# Altium footprint library ThroHole.PcbLib: 56 footprints (part 1 of 4)
Each footprint in its own frame and in the unit in brackets; x right, y up, seen from the top. Pads: shape width x height; smd on the part's side, far side on the other; paste and mask are expansions set on the pad; w line width, h text height; cw(c..) or ccw(c..) is an arc to the next point about the centre after c.
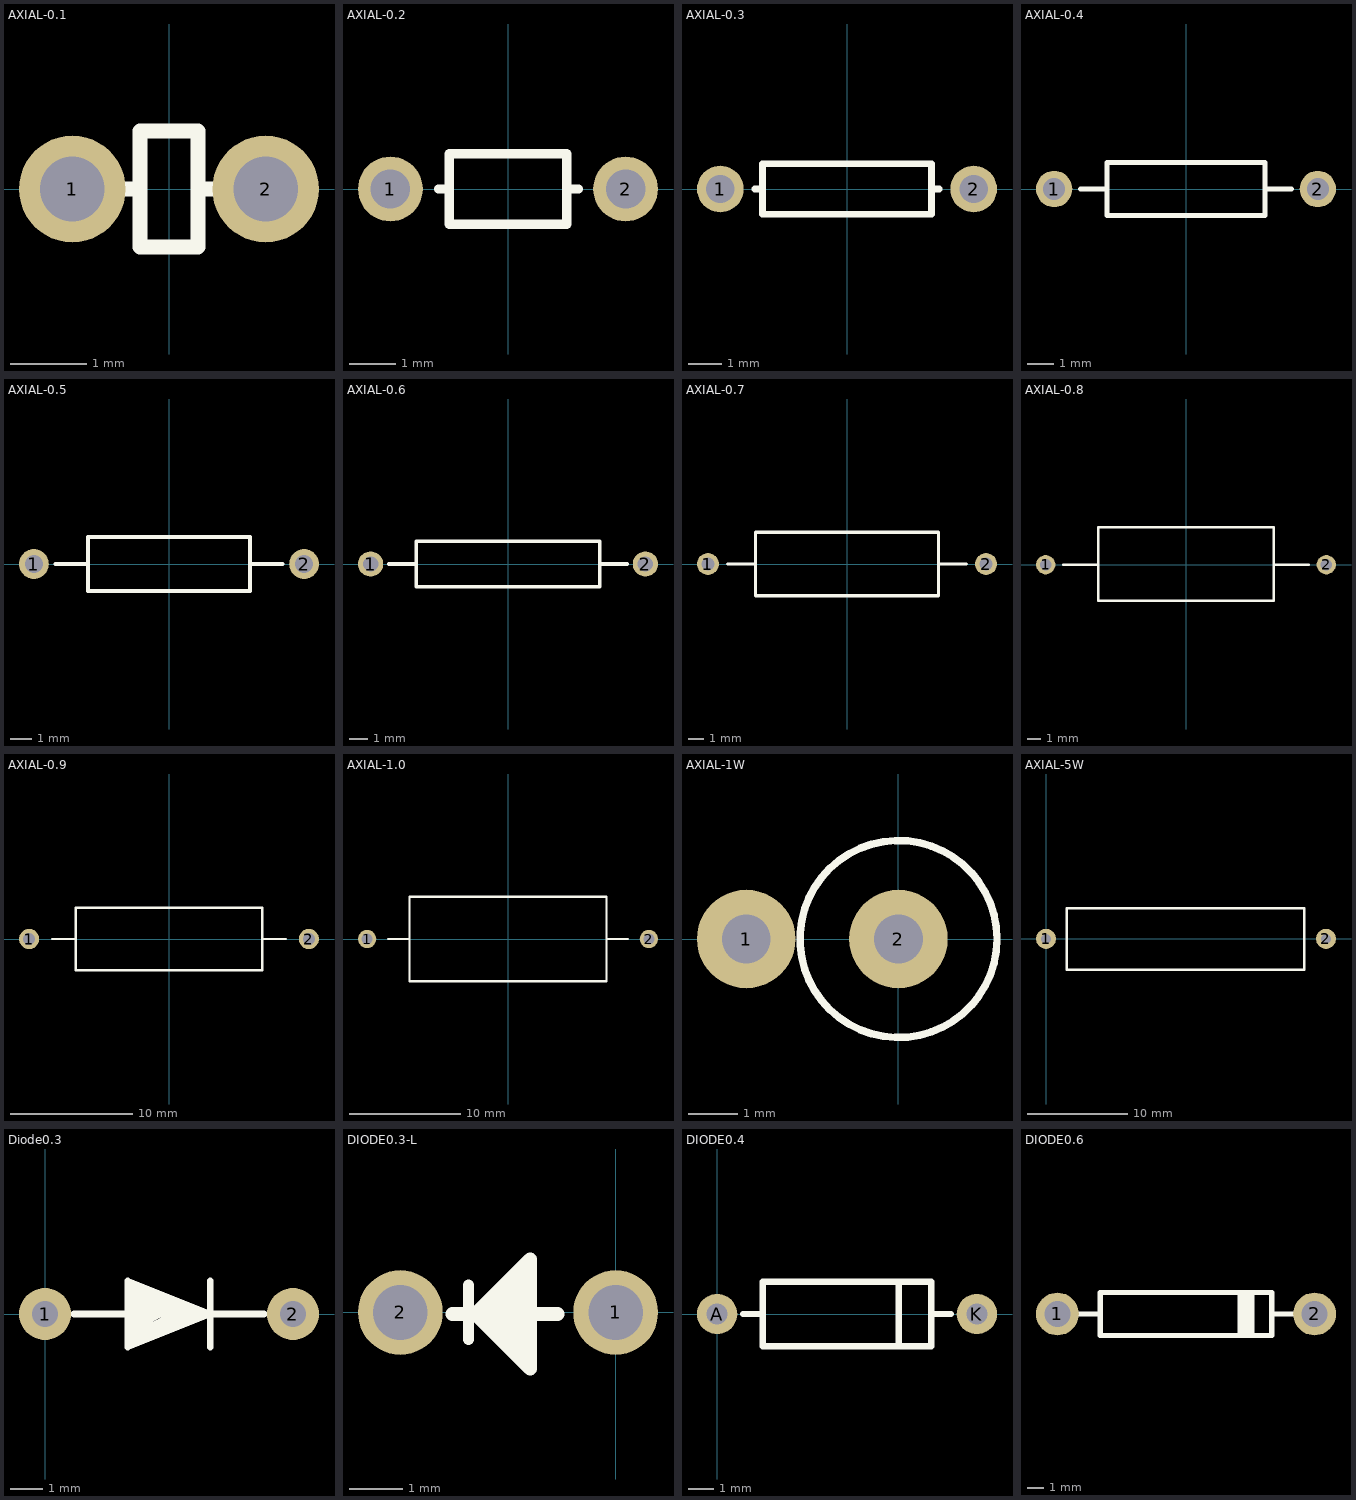
[diagram p0: the footprints below, top view; thin cyan lines are the x and y axes]

## AXIAL-0.1 [mm] "Axial Device, Resistor , Thru-Hole; 2 Leads; 0.1 in Pin Spacing"
height 1.524
pads (2):
  round 1.4 hole 0.85: 1(-1.27,0) 2(1.27,0)
Top Overlay:
  lines w0.2: -0.635,0 -0.406,0 ; 0.762,0 0.381,0 ; 0.381,0 0.381,0.762 -0.381,0.762 -0.381,-0.762 0.381,-0.762 0.381,0
3D body: height 6.85, standoff -1.9, extent -2.188,-0.952 1.524,0.889

## AXIAL-0.2 [mm] "Axial Device, Resistor , Thru-Hole; 2 Leads; 0.3 in Pin Spacing"
height 1.524
pads (2):
  round 1.4 hole 0.85: 1(-2.54,0) 2(2.54,0)
Top Overlay:
  lines w0.2: -1.499,0 -1.27,0 ; 1.524,0 1.27,0 ; 1.27,0 1.27,0.762 -1.27,0.762 -1.27,-0.762 1.27,-0.762 1.27,0
3D body: height 2.91, standoff -2, extent -2.794,-0.889 2.736,0.931

## AXIAL-0.3 [mm] "1/8W"
height 1.524
pads (2):
  round 1.4 hole 0.85: 1(-3.81,0) 2(3.81,0)
Top Overlay:
  lines w0.2: -2.769,0 -2.54,0 ; 2.769,0 2.54,0 ; 2.54,0 2.54,-0.762 -2.54,-0.762 -2.54,0.762 2.54,0.762 2.54,0
3D body: height 2.36, standoff -1.15, extent -4.064,-0.971 4.064,0.971

## AXIAL-0.4 [mm] "1/4W/1/2W"
height 2.032
pads (2):
  round 1.4 hole 0.85: 1(-5.08,0) 2(5.08,0)
Top Overlay:
  lines w0.2: -4.064,0 -3.048,0 ; 3.048,0 4.064,0 ; -3.048,-1.016 -3.048,1.016 3.048,1.016 3.048,-1.016 -3.048,-1.016
3D body: height 3.26, standoff -2, extent -5.38,-1.26 5.38,1.26

## AXIAL-0.5 [mm] "1/2W/1W"
height 2.54
pads (2):
  round 1.4 hole 0.85: 1(-6.35,0) 2(6.35,0)
Top Overlay:
  lines w0.2: -5.334,0 -3.81,0 ; 3.81,0 5.334,0 ; -3.81,-1.27 -3.81,1.27 3.81,1.27 3.81,-1.27 -3.81,-1.27
3D body: height 3.1, standoff -1.5, extent -6.731,-1.461 6.731,1.397

## AXIAL-0.6 [mm] "Variable Resistor; 2 Leads"
height 2.54
pads (2):
  round 1.4 hole 0.85: 1(-7.62,0) 2(7.62,0)
Top Overlay:
  lines w0.2: -6.604,0 -5.08,0 ; 5.08,0 6.604,0 ; -5.08,-1.27 -5.08,1.27 5.08,1.27 5.08,-1.27 -5.08,-1.27
3D body: height 2.5, standoff -0.8, extent -7.737,-1.351 7.823,1.249

## AXIAL-0.7 [mm] "Variable Resistor; 2 Leads"
height 4.064
pads (2):
  round 1.4 hole 0.85: 1(-8.89,0) 2(8.89,0)
Top Overlay:
  lines w0.2: -7.62,0 -5.842,0 ; 5.842,0 7.62,0 ; -5.842,-2.032 -5.842,2.032 5.842,2.032 5.842,-2.032 -5.842,-2.032
3D body: height 4.3, standoff -1, extent -9.214,-2.413 9.246,2.187

## AXIAL-0.8 [mm] "2W"
height 4.064
pads (2):
  round 1.4 hole 0.85: 1(-10.16,0) 2(10.16,0)
Top Overlay:
  lines w0.2: -8.89,0 -6.35,0 ; 6.35,0 8.89,0 ; -6.35,-2.616 -6.35,2.718 6.35,2.718 6.35,-2.616 -6.35,-2.616
3D body: height 5.5, standoff -3, extent -10.485,-2.655 10.535,2.845

## AXIAL-0.9 [mm] "Magnetic-Core Inductor; 2 Leads"
height 5.08
pads (2):
  round 1.65 hole 1: 1(-11.43,0) 2(11.43,0)
Top Overlay:
  lines w0.2: -9.525,0 -7.62,0 ; 7.62,0 9.525,0 ; -7.62,-2.54 -7.62,2.54 7.62,2.54 7.62,-2.54 -7.62,-2.54
3D body: height 4.3, standoff -1, extent -11.889,-2.362 11.811,2.238

## AXIAL-1.0 [mm] "Adjustable Magnetic-Core Inductor; 2 Leads"
height 7.62
pads (2):
  round 1.65 hole 1: 1(-12.7,0) 2(12.7,0)
Top Overlay:
  lines w0.2: -10.795,0 -8.89,0 ; 8.89,0 10.795,0 ; -8.89,-3.81 8.89,-3.81 8.89,3.81 -8.89,3.81 -8.89,-3.81
3D body: height 4.3, standoff -1, extent -13.068,-2.362 13.132,2.238

## AXIAL-1W [mil]
pads (2):
  round 79 hole 39: 1(-122.05,0) 2(0,0)
Top Overlay:
  circle w6: c0,0 r79
3D body: height 572.61, standoff -75.5, extent -137.24,-83.36 83.23,82

## AXIAL-5W [mm]
pads (2):
  round 2 hole 1: 1(0,0) 2(27.915,0)
Top Overlay:
  lines w0.254: 2.07,-3.073 25.743,-3.073 25.743,3.048 2.07,3.048 2.07,-3.073
3D body: height 8.01, standoff -9, extent -0.4,-3 28.34,3

## Diode0.3 [mm]
pads (2):
  round 1.6 hole 0.8: 1(0,0) 2(7.62,0)
Top Overlay:
  lines w0.203: 0.889,0 6.731,0 ; 2.667,-0.762 2.667,0.889 4.445,0.127 ; 2.794,-0.762 2.794,0.635 4.064,0.127 ; 3.048,0.381 3.683,0 ; 3.429,0 3.048,0.254 3.048,-0.254 3.81,0.127 2.921,0.508 2.921,-0.508 4.064,0 ; 5.08,-1.016 5.08,1.016 ; 2.54,-1.016 2.54,1.016 5.08,0 2.54,-1.016
  lines w0.254: 2.667,-0.762 4.572,0 ; 3.429,0 4.445,0.127

## DIODE0.3-L [mil]
pads (2):
  round 62 hole 40: 1(0,0) 2(-157.48,0)
Top Overlay:
  rectangle: -93.08,-8.67 -82.56,5.59
  lines w8: -107.68,-19.76 -107.68,20.24
  lines w10: -119.45,-1.1 -102.56,-1.1 ; -93.08,5.59 -83.43,5.59 ; -70.13,31.33 -70.13,-33.53 -83.43,-20.23 -83.43,5.59 ; -42.56,-1.1 -102.56,-1.1 ; -102.56,-1.1 -62.56,-41.1 -62.56,38.9 -102.56,-1.1 ; -83.43,5.59 -70.13,18.9 -79.94,18.9 -83.43,15.4 -83.43,-16.55 -81.59,-18.39 -70.13,-18.39 -74.99,-13.53 -74.99,11.33 -74.99,-1.1 -82.56,-8.67 -82.56,4.72 -83.43,5.59

## DIODE0.4 [mil]
pads (2):
  round 62 hole 32: A(0,0) K(400,0)
Top Overlay:
  lines w10: 40,0 70,0 ; 280,-50 280,50 ; 330,0 360,0 ; 70,-50 70,50 330,50 330,-50 70,-50
3D body: height 58.74, standoff -149.92, extent -19.72,-53.36 415.71,49

## DIODE0.6 [mil]
pads (2):
  round 100 hole 60: 1(11000,-2000) 2(11600,-2000)
Top Overlay:
  rectangle: 11420,-2050 11460,-1950
  lines w12: 11040,-2000 11100,-2000 ; 11500,-2000 11560,-2000 ; 11100,-2050 11500,-2050 11500,-1950 11100,-1950 11100,-2050